# Altium integrated library Intersil DSP 16-Bit.IntLib: 15 symbols
Pins are listed as number, name and electrical type; pins without a type are passive.

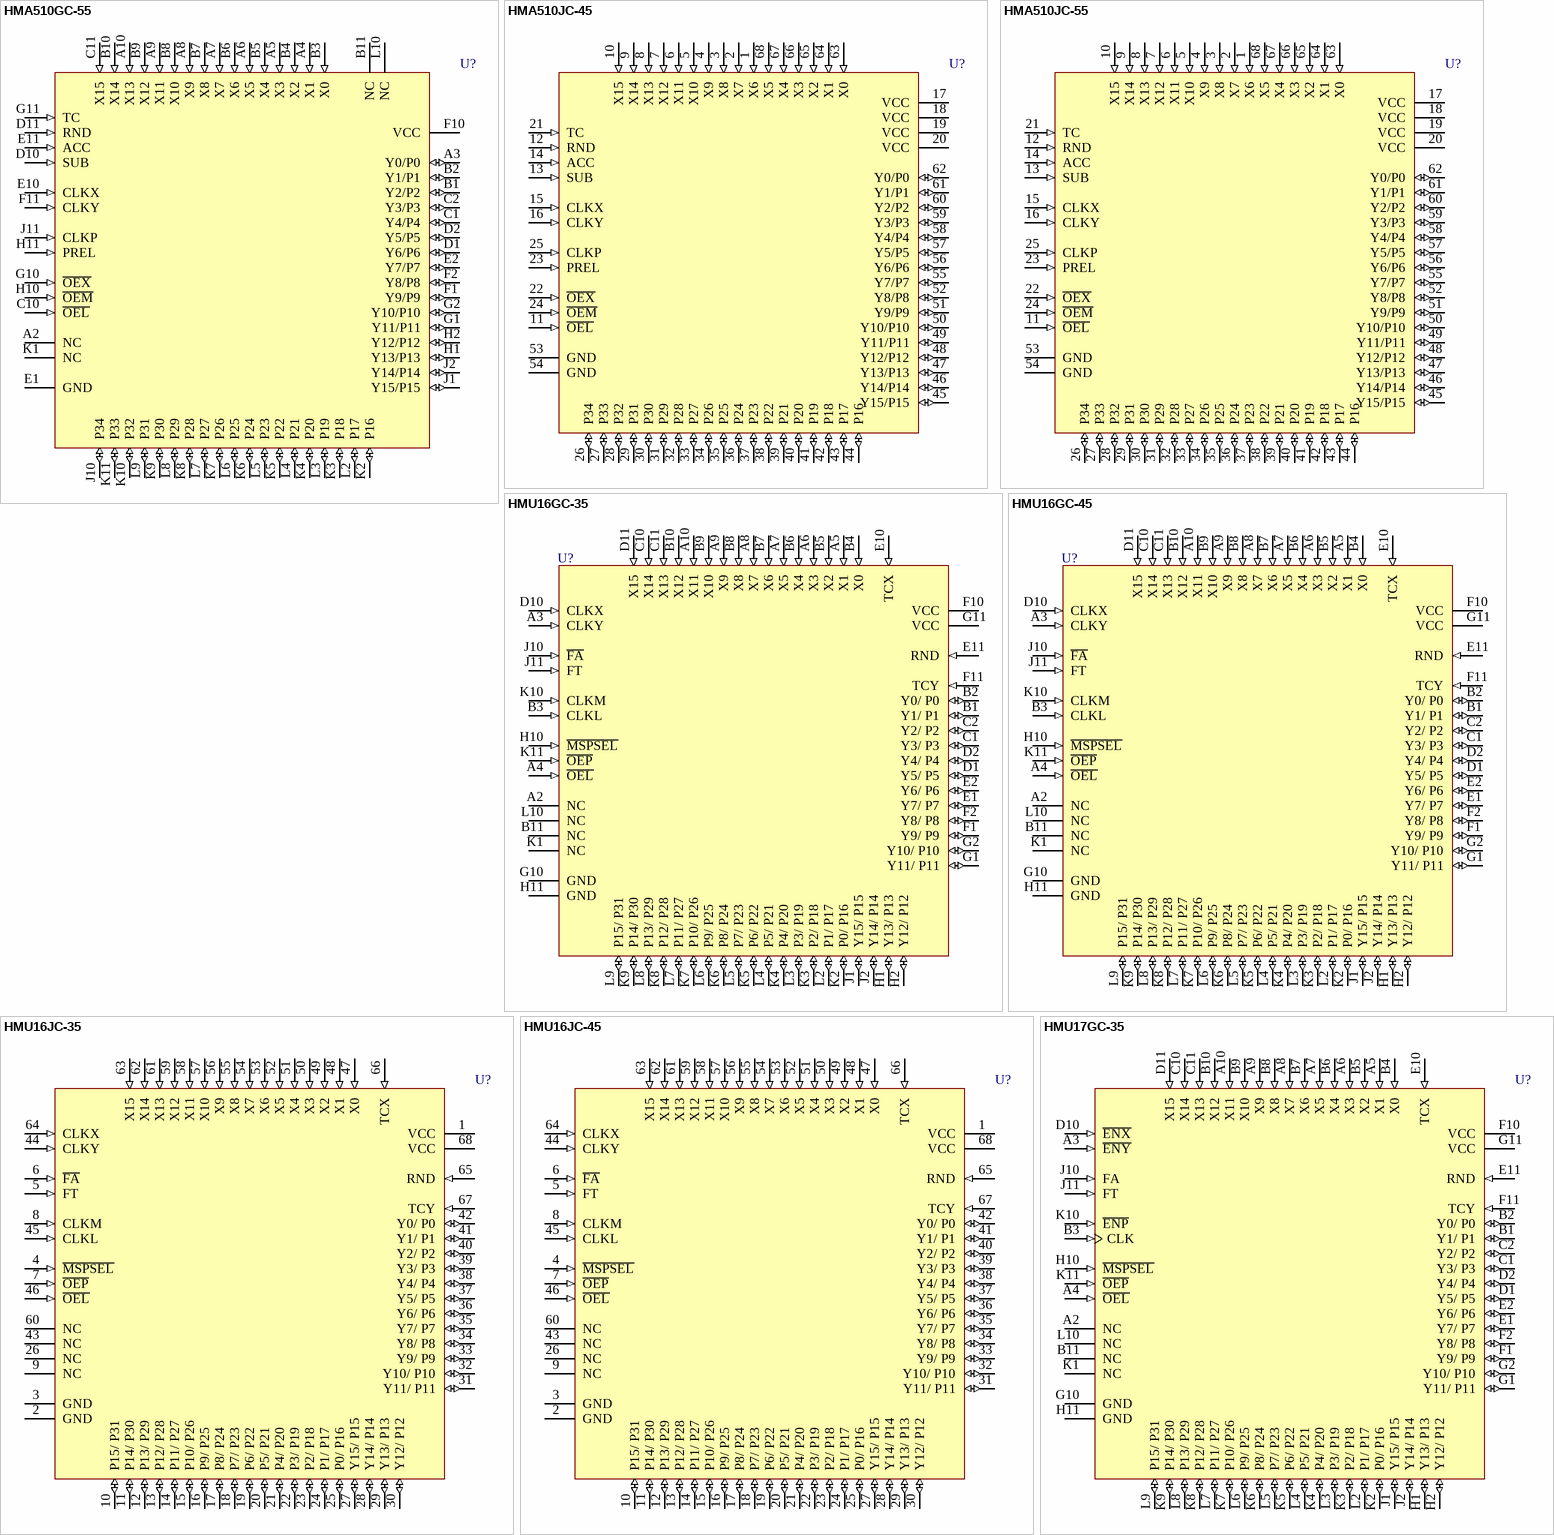
[diagram p0: symbols HMA510GC-55 to HMU17GC-35]

## HMA510GC-55
designator U?
16 x 16-Bit Parallel Multiplier Accumulator; Published: 17-Jul-2002; LatestRevisionDate: 06-Jun-2005; LatestRevisionNote: Stylized 3D Model Added.; DatasheetVersion: Apr-1997; PackageVersion: Jun-1995; PackageReference: G68.B; Publisher: Altium Limited; PackageDescription: 68-Pin Pin Grid Array 2.54 mm Pitch; ComponentLink1Description: Manufacturer Link; ComponentLink1URL: http://www.intersil.com/cda/home/
footprint G68.B (PGA, 68-Leads, Body 29.5x29.5mm, Pitch 2.54mm)
3D model HMA510-G68_B (68-Pin Pin Grid Array 2.54 mm Pitch)
pins: A2 NC, A3 Y0/P0 (io), A4 X1 (in), A5 X3 (in), A6 X5 (in), A7 X7 (in), A8 X9 (in), A9 X11 (in), A10 X13 (in), B1 Y2/P2 (io), B2 Y1/P1 (io), B3 X0 (in), B4 X2 (in), B5 X4 (in), B6 X6 (in), B7 X8 (in), B8 X10 (in), B9 X12 (in), B10 X14 (in), B11 NC, C1 Y4/P4 (io), C2 Y3/P3 (io), C10 ~{OEL} (in), C11 X15 (in), D1 Y6/P6 (io), D2 Y5/P5 (io), D10 SUB (in), D11 RND (in), E1 GND (power), E2 Y7/P7 (io), E10 CLKX (in), E11 ACC (in), F1 Y9/P9 (io), F2 Y8/P8 (io), F10 VCC (power), F11 CLKY (in), G1 Y11/P11 (io), G2 Y10/P10 (io), G10 ~{OEX} (in), G11 TC (in), H1 Y13/P13 (io), H2 Y12/P12 (io), H10 ~{OEM} (in), H11 PREL (in), J1 Y15/P15 (io), J2 Y14/P14 (io), J10 P34 (io), J11 CLKP (in), K1 NC, K2 P16 (io), K3 P18 (io), K4 P20 (io), K5 P22 (io), K6 P24 (io), K7 P26 (io), K8 P28 (io), K9 P30 (io), K10 P32 (io), K11 P33 (io), L2 P17 (io), L3 P19 (io), L4 P21 (io), L5 P23 (io), L6 P25 (io), L7 P27 (io), L8 P29 (io), L9 P31 (io), L10 NC

## HMA510JC-45
designator U?
16 x 16-Bit Parallel Multiplier Accumulator; Published: 17-Jul-2002; LatestRevisionDate: 13-Apr-2006; LatestRevisionNote: IPC-7351 Footprint Added.; DatasheetVersion: Apr-1997; PackageVersion: Nov-1997; PackageReference: N68.95; Publisher: Altium Limited; PackageDescription: 68-Pin Leaded Chip Carrier 1.27 mm Pitch; Code_IPC: PLCC-68; ComponentLink1Description: Manufacturer Link; ComponentLink1URL: http://www.intersil.com/cda/home/
footprint N68.95_N (Leaded Chip Carrier, 68-Leads, Body 24x24mm, Pitch 1.27mm, IPC Medium Density)
footprint N68.95_L (Leaded Chip Carrier, 68-Leads, Body 24x24mm, Pitch 1.27mm, IPC High Density)
footprint N68.95_M (Leaded Chip Carrier, 68-Leads, Body 24x24mm, Pitch 1.27mm, IPC Low Density)
3D model HMA510-N68_95 (68-Pin Leaded Chip Carrier 1.27 mm Pitch)
pins: 1 X6 (in), 2 X7 (in), 3 X8 (in), 4 X9 (in), 5 X10 (in), 6 X11 (in), 7 X12 (in), 8 X13 (in), 9 X14 (in), 10 X15 (in), 11 ~{OEL} (in), 12 RND (in), 13 SUB (in), 14 ACC (in), 15 CLKX (in), 16 CLKY (in), 17 VCC (power), 18 VCC (power), 19 VCC (power), 20 VCC (power), 21 TC (in), 22 ~{OEX} (in), 23 PREL (in), 24 ~{OEM} (in), 25 CLKP (in), 26 P34 (io), 27 P33 (io), 28 P32 (io), 29 P31 (io), 30 P30 (io), 31 P29 (io), 32 P28 (io), 33 P27 (io), 34 P26 (io), 35 P25 (io), 36 P24 (io), 37 P23 (io), 38 P22 (io), 39 P21 (io), 40 P20 (io), 41 P19 (io), 42 P18 (io), 43 P17 (io), 44 P16 (io), 45 Y15/P15 (io), 46 Y14/P14 (io), 47 Y13/P13 (io), 48 Y12/P12 (io), 49 Y11/P11 (io), 50 Y10/P10 (io), 51 Y9/P9 (io), 52 Y8/P8 (io), 53 GND (power), 54 GND (power), 55 Y7/P7 (io), 56 Y6/P6 (io), 57 Y5/P5 (io), 58 Y4/P4 (io), 59 Y3/P3 (io), 60 Y2/P2 (io), 61 Y1/P1 (io), 62 Y0/P0 (io), 63 X0 (in), 64 X1 (in), 65 X2 (in), 66 X3 (in), 67 X4 (in), 68 X5 (in)

## HMA510JC-55
designator U?
16 x 16-Bit Parallel Multiplier Accumulator; Published: 17-Jul-2002; LatestRevisionDate: 13-Apr-2006; LatestRevisionNote: IPC-7351 Footprint Added.; DatasheetVersion: Apr-1997; PackageVersion: Nov-1997; PackageReference: N68.95; Publisher: Altium Limited; PackageDescription: 68-Pin Leaded Chip Carrier 1.27 mm Pitch; Code_IPC: PLCC-68; ComponentLink1Description: Manufacturer Link; ComponentLink1URL: http://www.intersil.com/cda/home/
footprint N68.95_N (Leaded Chip Carrier, 68-Leads, Body 24x24mm, Pitch 1.27mm, IPC Medium Density)
footprint N68.95_L (Leaded Chip Carrier, 68-Leads, Body 24x24mm, Pitch 1.27mm, IPC High Density)
footprint N68.95_M (Leaded Chip Carrier, 68-Leads, Body 24x24mm, Pitch 1.27mm, IPC Low Density)
3D model HMA510-N68_95 (68-Pin Leaded Chip Carrier 1.27 mm Pitch)
pins: 1 X6 (in), 2 X7 (in), 3 X8 (in), 4 X9 (in), 5 X10 (in), 6 X11 (in), 7 X12 (in), 8 X13 (in), 9 X14 (in), 10 X15 (in), 11 ~{OEL} (in), 12 RND (in), 13 SUB (in), 14 ACC (in), 15 CLKX (in), 16 CLKY (in), 17 VCC (power), 18 VCC (power), 19 VCC (power), 20 VCC (power), 21 TC (in), 22 ~{OEX} (in), 23 PREL (in), 24 ~{OEM} (in), 25 CLKP (in), 26 P34 (io), 27 P33 (io), 28 P32 (io), 29 P31 (io), 30 P30 (io), 31 P29 (io), 32 P28 (io), 33 P27 (io), 34 P26 (io), 35 P25 (io), 36 P24 (io), 37 P23 (io), 38 P22 (io), 39 P21 (io), 40 P20 (io), 41 P19 (io), 42 P18 (io), 43 P17 (io), 44 P16 (io), 45 Y15/P15 (io), 46 Y14/P14 (io), 47 Y13/P13 (io), 48 Y12/P12 (io), 49 Y11/P11 (io), 50 Y10/P10 (io), 51 Y9/P9 (io), 52 Y8/P8 (io), 53 GND (power), 54 GND (power), 55 Y7/P7 (io), 56 Y6/P6 (io), 57 Y5/P5 (io), 58 Y4/P4 (io), 59 Y3/P3 (io), 60 Y2/P2 (io), 61 Y1/P1 (io), 62 Y0/P0 (io), 63 X0 (in), 64 X1 (in), 65 X2 (in), 66 X3 (in), 67 X4 (in), 68 X5 (in)

## HMU16GC-35
designator U?
16 x 16-Bit CMOS Parallel Multipliers; Published: 17-Jul-2002; LatestRevisionDate: 06-Jun-2005; LatestRevisionNote: Stylized 3D Model Added.; DatasheetVersion: Nov-1999; PackageVersion: Jun-1995; PackageReference: G68.B; Publisher: Altium Limited; PackageDescription: 68-Pin Pin Grid Array 2.54 mm Pitch; ComponentLink1Description: Manufacturer Link; ComponentLink1URL: http://www.intersil.com/cda/home/
footprint G68.B (PGA, 68-Leads, Body 29.5x29.5mm, Pitch 2.54mm)
3D model HMU16-G68_B (68-Pin Pin Grid Array 2.54 mm Pitch)
pins: A2 NC, A3 CLKY (in), A4 ~{OEL} (in), A5 X1 (in), A6 X3 (in), A7 X5 (in), A8 X7 (in), A9 X9 (in), A10 X11 (in), B1 Y1/ P1 (io), B2 Y0/ P0 (io), B3 CLKL (in), B4 X0 (in), B5 X2 (in), B6 X4 (in), B7 X6 (in), B8 X8 (in), B9 X10 (in), B10 X12 (in), B11 NC, C1 Y3/ P3 (io), C2 Y2/ P2 (io), C10 X14 (in), C11 X13 (in), D1 Y5/ P5 (io), D2 Y4/ P4 (io), D10 CLKX (in), D11 X15 (in), E1 Y7/ P7 (io), E2 Y6/ P6 (io), E10 TCX (in), E11 RND (in), F1 Y9/ P9 (io), F2 Y8/ P8 (io), F10 VCC (power), F11 TCY (in), G1 Y11/ P11 (io), G2 Y10/ P10 (io), G10 GND (power), G11 VCC (power), H1 Y13/ P13 (io), H2 Y12/ P12 (io), H10 ~{MSPSEL} (in), H11 GND (power), J1 Y15/ P15 (io), J2 Y14/ P14 (io), J10 ~{FA} (in), J11 FT (in), K1 NC, K2 P0/ P16 (io), K3 P2/ P18 (io), K4 P4/ P20 (io), K5 P6/ P22 (io), K6 P8/ P24 (io), K7 P10/ P26 (io), K8 P12/ P28 (io), K9 P14/ P30 (io), K10 CLKM (in), K11 ~{OEP} (in), L2 P1/ P17 (io), L3 P3/ P19 (io), L4 P5/ P21 (io), L5 P7/ P23 (io), L6 P9/ P25 (io), L7 P11/ P27 (io), L8 P13/ P29 (io), L9 P15/ P31 (io), L10 NC

## HMU16GC-45
designator U?
16 x 16-Bit CMOS Parallel Multipliers; Published: 17-Jul-2002; LatestRevisionDate: 06-Jun-2005; LatestRevisionNote: Stylized 3D Model Added.; DatasheetVersion: Nov-1999; PackageVersion: Jun-1995; PackageReference: G68.B; Publisher: Altium Limited; PackageDescription: 68-Pin Pin Grid Array 2.54 mm Pitch; ComponentLink1Description: Manufacturer Link; ComponentLink1URL: http://www.intersil.com/cda/home/
footprint G68.B (PGA, 68-Leads, Body 29.5x29.5mm, Pitch 2.54mm)
3D model HMU16-G68_B (68-Pin Pin Grid Array 2.54 mm Pitch)
pins: A2 NC, A3 CLKY (in), A4 ~{OEL} (in), A5 X1 (in), A6 X3 (in), A7 X5 (in), A8 X7 (in), A9 X9 (in), A10 X11 (in), B1 Y1/ P1 (io), B2 Y0/ P0 (io), B3 CLKL (in), B4 X0 (in), B5 X2 (in), B6 X4 (in), B7 X6 (in), B8 X8 (in), B9 X10 (in), B10 X12 (in), B11 NC, C1 Y3/ P3 (io), C2 Y2/ P2 (io), C10 X14 (in), C11 X13 (in), D1 Y5/ P5 (io), D2 Y4/ P4 (io), D10 CLKX (in), D11 X15 (in), E1 Y7/ P7 (io), E2 Y6/ P6 (io), E10 TCX (in), E11 RND (in), F1 Y9/ P9 (io), F2 Y8/ P8 (io), F10 VCC (power), F11 TCY (in), G1 Y11/ P11 (io), G2 Y10/ P10 (io), G10 GND (power), G11 VCC (power), H1 Y13/ P13 (io), H2 Y12/ P12 (io), H10 ~{MSPSEL} (in), H11 GND (power), J1 Y15/ P15 (io), J2 Y14/ P14 (io), J10 ~{FA} (in), J11 FT (in), K1 NC, K2 P0/ P16 (io), K3 P2/ P18 (io), K4 P4/ P20 (io), K5 P6/ P22 (io), K6 P8/ P24 (io), K7 P10/ P26 (io), K8 P12/ P28 (io), K9 P14/ P30 (io), K10 CLKM (in), K11 ~{OEP} (in), L2 P1/ P17 (io), L3 P3/ P19 (io), L4 P5/ P21 (io), L5 P7/ P23 (io), L6 P9/ P25 (io), L7 P11/ P27 (io), L8 P13/ P29 (io), L9 P15/ P31 (io), L10 NC

## HMU16JC-35
designator U?
16 x 16-Bit CMOS Parallel Multipliers; Published: 17-Jul-2002; LatestRevisionDate: 13-Apr-2006; LatestRevisionNote: IPC-7351 Footprint Added.; DatasheetVersion: Nov-1999; PackageVersion: Nov-1997; PackageReference: N68.95; Publisher: Altium Limited; PackageDescription: 68-Pin Leaded Chip Carrier 1.27 mm Pitch; Code_IPC: PLCC-68; ComponentLink1Description: Manufacturer Link; ComponentLink1URL: http://www.intersil.com/cda/home/
footprint N68.95_N (Leaded Chip Carrier, 68-Leads, Body 24x24mm, Pitch 1.27mm, IPC Medium Density)
footprint N68.95_L (Leaded Chip Carrier, 68-Leads, Body 24x24mm, Pitch 1.27mm, IPC High Density)
footprint N68.95_M (Leaded Chip Carrier, 68-Leads, Body 24x24mm, Pitch 1.27mm, IPC Low Density)
3D model HMU16-N68_95 (68-Pin Leaded Chip Carrier 1.27 mm Pitch)
pins: 1 VCC (power), 2 GND (power), 3 GND (power), 4 ~{MSPSEL} (in), 5 FT (in), 6 ~{FA} (in), 7 ~{OEP} (in), 8 CLKM (in), 9 NC, 10 P15/ P31 (io), 11 P14/ P30 (io), 12 P13/ P29 (io), 13 P12/ P28 (io), 14 P11/ P27 (io), 15 P10/ P26 (io), 16 P9/ P25 (io), 17 P8/ P24 (io), 18 P7/ P23 (io), 19 P6/ P22 (io), 20 P5/ P21 (io), 21 P4/ P20 (io), 22 P3/ P19 (io), 23 P2/ P18 (io), 24 P1/ P17 (io), 25 P0/ P16 (io), 26 NC, 27 Y15/ P15 (io), 28 Y14/ P14 (io), 29 Y13/ P13 (io), 30 Y12/ P12 (io), 31 Y11/ P11 (io), 32 Y10/ P10 (io), 33 Y9/ P9 (io), 34 Y8/ P8 (io), 35 Y7/ P7 (io), 36 Y6/ P6 (io), 37 Y5/ P5 (io), 38 Y4/ P4 (io), 39 Y3/ P3 (io), 40 Y2/ P2 (io), 41 Y1/ P1 (io), 42 Y0/ P0 (io), 43 NC, 44 CLKY (in), 45 CLKL (in), 46 ~{OEL} (in), 47 X0 (in), 48 X1 (in), 49 X2 (in), 50 X3 (in), 51 X4 (in), 52 X5 (in), 53 X6 (in), 54 X7 (in), 55 X8 (in), 56 X9 (in), 57 X10 (in), 58 X11 (in), 59 X12 (in), 60 NC, 61 X13 (in), 62 X14 (in), 63 X15 (in), 64 CLKX (in), 65 RND (in), 66 TCX (in), 67 TCY (in), 68 VCC (power)

## HMU16JC-45
designator U?
16 x 16-Bit CMOS Parallel Multipliers; Published: 17-Jul-2002; LatestRevisionDate: 13-Apr-2006; LatestRevisionNote: IPC-7351 Footprint Added.; DatasheetVersion: Nov-1999; PackageVersion: Nov-1997; PackageReference: N68.95; Publisher: Altium Limited; PackageDescription: 68-Pin Leaded Chip Carrier 1.27 mm Pitch; Code_IPC: PLCC-68; ComponentLink1Description: Manufacturer Link; ComponentLink1URL: http://www.intersil.com/cda/home/
footprint N68.95_N (Leaded Chip Carrier, 68-Leads, Body 24x24mm, Pitch 1.27mm, IPC Medium Density)
footprint N68.95_L (Leaded Chip Carrier, 68-Leads, Body 24x24mm, Pitch 1.27mm, IPC High Density)
footprint N68.95_M (Leaded Chip Carrier, 68-Leads, Body 24x24mm, Pitch 1.27mm, IPC Low Density)
3D model HMU16-N68_95 (68-Pin Leaded Chip Carrier 1.27 mm Pitch)
pins: 1 VCC (power), 2 GND (power), 3 GND (power), 4 ~{MSPSEL} (in), 5 FT (in), 6 ~{FA} (in), 7 ~{OEP} (in), 8 CLKM (in), 9 NC, 10 P15/ P31 (io), 11 P14/ P30 (io), 12 P13/ P29 (io), 13 P12/ P28 (io), 14 P11/ P27 (io), 15 P10/ P26 (io), 16 P9/ P25 (io), 17 P8/ P24 (io), 18 P7/ P23 (io), 19 P6/ P22 (io), 20 P5/ P21 (io), 21 P4/ P20 (io), 22 P3/ P19 (io), 23 P2/ P18 (io), 24 P1/ P17 (io), 25 P0/ P16 (io), 26 NC, 27 Y15/ P15 (io), 28 Y14/ P14 (io), 29 Y13/ P13 (io), 30 Y12/ P12 (io), 31 Y11/ P11 (io), 32 Y10/ P10 (io), 33 Y9/ P9 (io), 34 Y8/ P8 (io), 35 Y7/ P7 (io), 36 Y6/ P6 (io), 37 Y5/ P5 (io), 38 Y4/ P4 (io), 39 Y3/ P3 (io), 40 Y2/ P2 (io), 41 Y1/ P1 (io), 42 Y0/ P0 (io), 43 NC, 44 CLKY (in), 45 CLKL (in), 46 ~{OEL} (in), 47 X0 (in), 48 X1 (in), 49 X2 (in), 50 X3 (in), 51 X4 (in), 52 X5 (in), 53 X6 (in), 54 X7 (in), 55 X8 (in), 56 X9 (in), 57 X10 (in), 58 X11 (in), 59 X12 (in), 60 NC, 61 X13 (in), 62 X14 (in), 63 X15 (in), 64 CLKX (in), 65 RND (in), 66 TCX (in), 67 TCY (in), 68 VCC (power)

## HMU17GC-35
designator U?
16 x 16-Bit CMOS Parallel Multipliers; Published: 17-Jul-2002; LatestRevisionDate: 06-Jun-2005; LatestRevisionNote: Stylized 3D Model Added.; DatasheetVersion: Nov-1999; PackageVersion: Jun-1995; PackageReference: G68.B; Publisher: Altium Limited; PackageDescription: 68-Pin Pin Grid Array 2.54 mm Pitch; ComponentLink1Description: Manufacturer Link; ComponentLink1URL: http://www.intersil.com/cda/home/
footprint G68.B (PGA, 68-Leads, Body 29.5x29.5mm, Pitch 2.54mm)
3D model HMU17-G68_B (68-Pin Pin Grid Array 2.54 mm Pitch)
pins: A2 NC, A3 ~{ENY} (in), A4 ~{OEL} (in), A5 X1 (in), A6 X3 (in), A7 X5 (in), A8 X7 (in), A9 X9 (in), A10 X11 (in), B1 Y1/ P1 (io), B2 Y0/ P0 (io), B3 CLK (in), B4 X0 (in), B5 X2 (in), B6 X4 (in), B7 X6 (in), B8 X8 (in), B9 X10 (in), B10 X12 (in), B11 NC, C1 Y3/ P3 (io), C2 Y2/ P2 (io), C10 X14 (in), C11 X13 (in), D1 Y5/ P5 (io), D2 Y4/ P4 (io), D10 ~{ENX} (in), D11 X15 (in), E1 Y7/ P7 (io), E2 Y6/ P6 (io), E10 TCX (in), E11 RND (in), F1 Y9/ P9 (io), F2 Y8/ P8 (io), F10 VCC (power), F11 TCY (in), G1 Y11/ P11 (io), G2 Y10/ P10 (io), G10 GND (power), G11 VCC (power), H1 Y13/ P13 (io), H2 Y12/ P12 (io), H10 ~{MSPSEL} (in), H11 GND (power), J1 Y15/ P15 (io), J2 Y14/ P14 (io), J10 FA (in), J11 FT (in), K1 NC, K2 P0/ P16 (io), K3 P2/ P18 (io), K4 P4/ P20 (io), K5 P6/ P22 (io), K6 P8/ P24 (io), K7 P10/ P26 (io), K8 P12/ P28 (io), K9 P14/ P30 (io), K10 ~{ENP} (in), K11 ~{OEP} (in), L2 P1/ P17 (io), L3 P3/ P19 (io), L4 P5/ P21 (io), L5 P7/ P23 (io), L6 P9/ P25 (io), L7 P11/ P27 (io), L8 P13/ P29 (io), L9 P15/ P31 (io), L10 NC

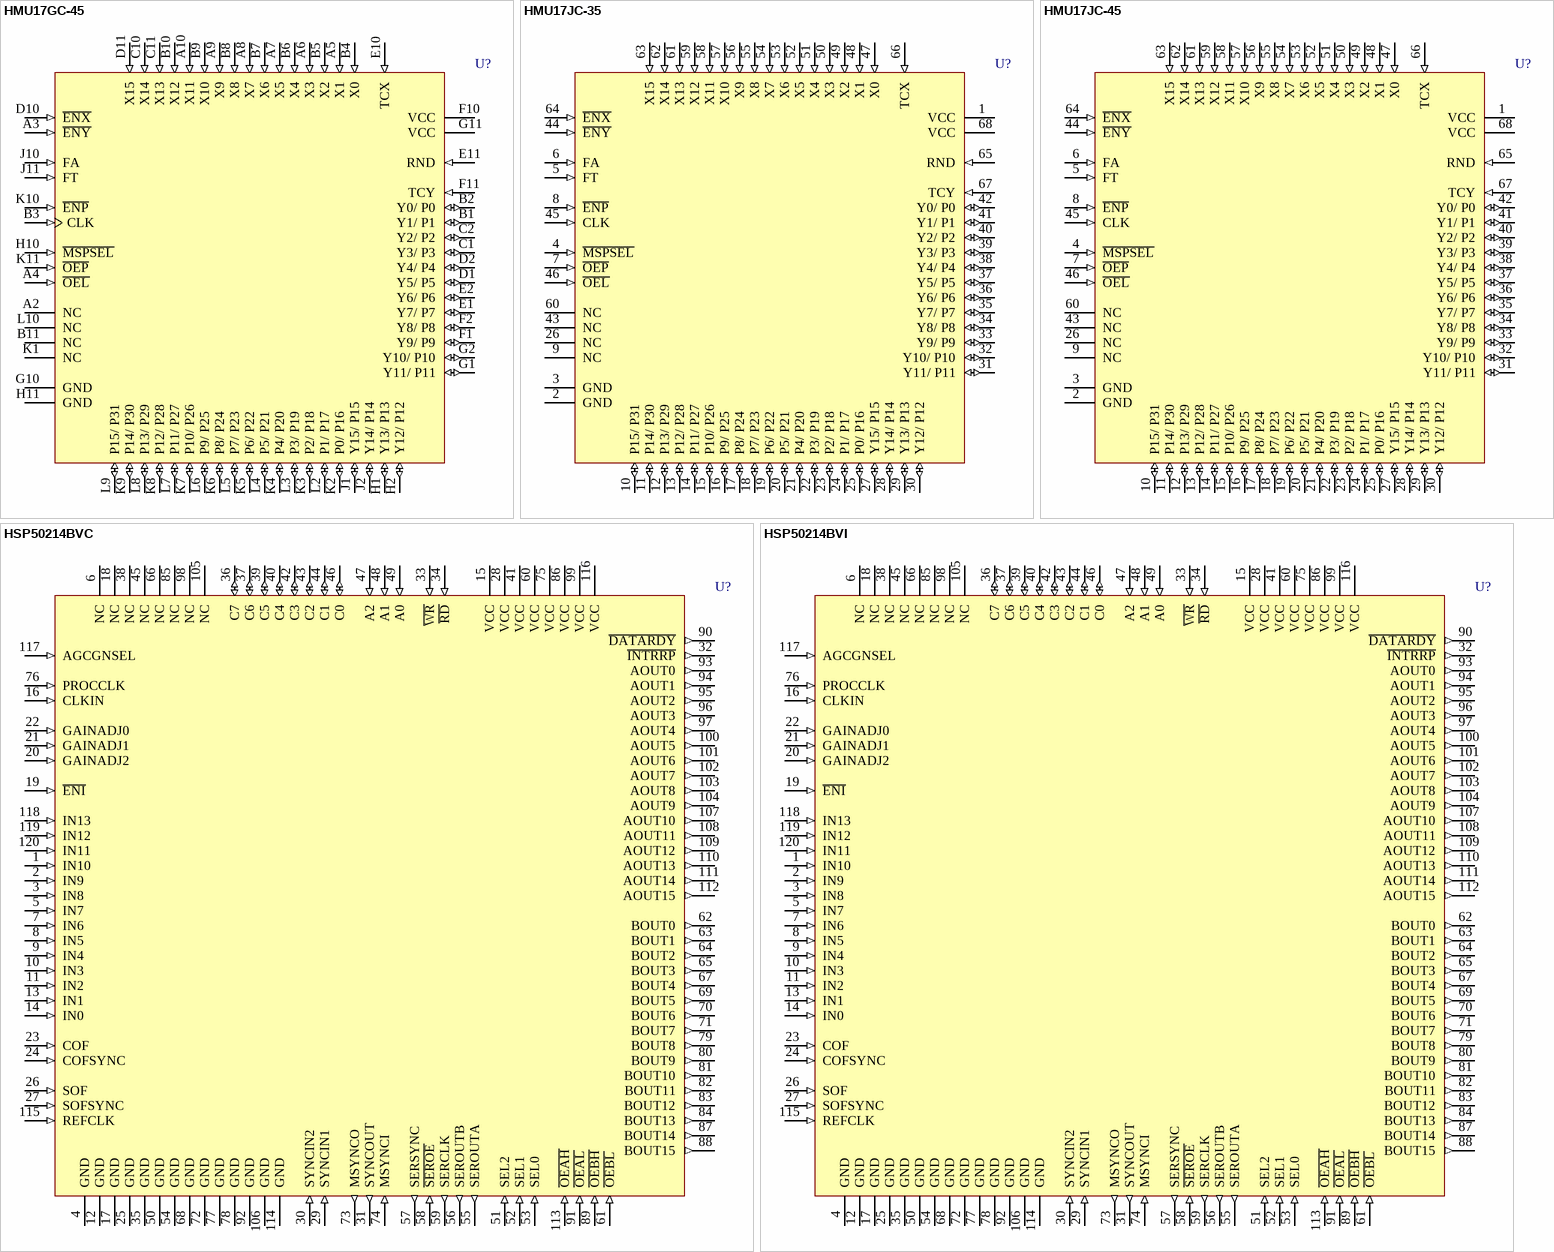
[diagram p1: symbols HMU17GC-45 to HSP50214BVI]

## HMU17GC-45
designator U?
16 x 16-Bit CMOS Parallel Multipliers; Published: 17-Jul-2002; LatestRevisionDate: 06-Jun-2005; LatestRevisionNote: Stylized 3D Model Added.; DatasheetVersion: Nov-1999; PackageVersion: Jun-1995; PackageReference: G68.B; Publisher: Altium Limited; PackageDescription: 68-Pin Pin Grid Array 2.54 mm Pitch; ComponentLink1Description: Manufacturer Link; ComponentLink1URL: http://www.intersil.com/cda/home/
footprint G68.B (PGA, 68-Leads, Body 29.5x29.5mm, Pitch 2.54mm)
3D model HMU17-G68_B (68-Pin Pin Grid Array 2.54 mm Pitch)
pins: A2 NC, A3 ~{ENY} (in), A4 ~{OEL} (in), A5 X1 (in), A6 X3 (in), A7 X5 (in), A8 X7 (in), A9 X9 (in), A10 X11 (in), B1 Y1/ P1 (io), B2 Y0/ P0 (io), B3 CLK (in), B4 X0 (in), B5 X2 (in), B6 X4 (in), B7 X6 (in), B8 X8 (in), B9 X10 (in), B10 X12 (in), B11 NC, C1 Y3/ P3 (io), C2 Y2/ P2 (io), C10 X14 (in), C11 X13 (in), D1 Y5/ P5 (io), D2 Y4/ P4 (io), D10 ~{ENX} (in), D11 X15 (in), E1 Y7/ P7 (io), E2 Y6/ P6 (io), E10 TCX (in), E11 RND (in), F1 Y9/ P9 (io), F2 Y8/ P8 (io), F10 VCC (power), F11 TCY (in), G1 Y11/ P11 (io), G2 Y10/ P10 (io), G10 GND (power), G11 VCC (power), H1 Y13/ P13 (io), H2 Y12/ P12 (io), H10 ~{MSPSEL} (in), H11 GND (power), J1 Y15/ P15 (io), J2 Y14/ P14 (io), J10 FA (in), J11 FT (in), K1 NC, K2 P0/ P16 (io), K3 P2/ P18 (io), K4 P4/ P20 (io), K5 P6/ P22 (io), K6 P8/ P24 (io), K7 P10/ P26 (io), K8 P12/ P28 (io), K9 P14/ P30 (io), K10 ~{ENP} (in), K11 ~{OEP} (in), L2 P1/ P17 (io), L3 P3/ P19 (io), L4 P5/ P21 (io), L5 P7/ P23 (io), L6 P9/ P25 (io), L7 P11/ P27 (io), L8 P13/ P29 (io), L9 P15/ P31 (io), L10 NC

## HMU17JC-35
designator U?
16 x 16-Bit CMOS Parallel Multipliers; Published: 17-Jul-2002; LatestRevisionDate: 13-Apr-2006; LatestRevisionNote: IPC-7351 Footprint Added.; DatasheetVersion: Nov-1999; PackageVersion: Nov-1997; PackageReference: N68.95; Publisher: Altium Limited; PackageDescription: 68-Pin Leaded Chip Carrier 1.27 mm Pitch; Code_IPC: PLCC-68; ComponentLink1Description: Manufacturer Link; ComponentLink1URL: http://www.intersil.com/cda/home/
footprint N68.95_N (Leaded Chip Carrier, 68-Leads, Body 24x24mm, Pitch 1.27mm, IPC Medium Density)
footprint N68.95_L (Leaded Chip Carrier, 68-Leads, Body 24x24mm, Pitch 1.27mm, IPC High Density)
footprint N68.95_M (Leaded Chip Carrier, 68-Leads, Body 24x24mm, Pitch 1.27mm, IPC Low Density)
3D model HMU17-N68_95 (68-Pin Leaded Chip Carrier 1.27 mm Pitch)
pins: 1 VCC (power), 2 GND (power), 3 GND (power), 4 ~{MSPSEL} (in), 5 FT (in), 6 FA (in), 7 ~{OEP} (in), 8 ~{ENP} (in), 9 NC, 10 P15/ P31 (io), 11 P14/ P30 (io), 12 P13/ P29 (io), 13 P12/ P28 (io), 14 P11/ P27 (io), 15 P10/ P26 (io), 16 P9/ P25 (io), 17 P8/ P24 (io), 18 P7/ P23 (io), 19 P6/ P22 (io), 20 P5/ P21 (io), 21 P4/ P20 (io), 22 P3/ P19 (io), 23 P2/ P18 (io), 24 P1/ P17 (io), 25 P0/ P16 (io), 26 NC, 27 Y15/ P15 (io), 28 Y14/ P14 (io), 29 Y13/ P13 (io), 30 Y12/ P12 (io), 31 Y11/ P11 (io), 32 Y10/ P10 (io), 33 Y9/ P9 (io), 34 Y8/ P8 (io), 35 Y7/ P7 (io), 36 Y6/ P6 (io), 37 Y5/ P5 (io), 38 Y4/ P4 (io), 39 Y3/ P3 (io), 40 Y2/ P2 (io), 41 Y1/ P1 (io), 42 Y0/ P0 (io), 43 NC, 44 ~{ENY} (in), 45 CLK (in), 46 ~{OEL} (in), 47 X0 (in), 48 X1 (in), 49 X2 (in), 50 X3 (in), 51 X4 (in), 52 X5 (in), 53 X6 (in), 54 X7 (in), 55 X8 (in), 56 X9 (in), 57 X10 (in), 58 X11 (in), 59 X12 (in), 60 NC, 61 X13 (in), 62 X14 (in), 63 X15 (in), 64 ~{ENX} (in), 65 RND (in), 66 TCX (in), 67 TCY (in), 68 VCC (power)

## HMU17JC-45
designator U?
16 x 16-Bit CMOS Parallel Multipliers; Published: 17-Jul-2002; LatestRevisionDate: 13-Apr-2006; LatestRevisionNote: IPC-7351 Footprint Added.; DatasheetVersion: Nov-1999; PackageVersion: Nov-1997; PackageReference: N68.95; Publisher: Altium Limited; PackageDescription: 68-Pin Leaded Chip Carrier 1.27 mm Pitch; Code_IPC: PLCC-68; ComponentLink1Description: Manufacturer Link; ComponentLink1URL: http://www.intersil.com/cda/home/
footprint N68.95_N (Leaded Chip Carrier, 68-Leads, Body 24x24mm, Pitch 1.27mm, IPC Medium Density)
footprint N68.95_L (Leaded Chip Carrier, 68-Leads, Body 24x24mm, Pitch 1.27mm, IPC High Density)
footprint N68.95_M (Leaded Chip Carrier, 68-Leads, Body 24x24mm, Pitch 1.27mm, IPC Low Density)
3D model HMU17-N68_95 (68-Pin Leaded Chip Carrier 1.27 mm Pitch)
pins: 1 VCC (power), 2 GND (power), 3 GND (power), 4 ~{MSPSEL} (in), 5 FT (in), 6 FA (in), 7 ~{OEP} (in), 8 ~{ENP} (in), 9 NC, 10 P15/ P31 (io), 11 P14/ P30 (io), 12 P13/ P29 (io), 13 P12/ P28 (io), 14 P11/ P27 (io), 15 P10/ P26 (io), 16 P9/ P25 (io), 17 P8/ P24 (io), 18 P7/ P23 (io), 19 P6/ P22 (io), 20 P5/ P21 (io), 21 P4/ P20 (io), 22 P3/ P19 (io), 23 P2/ P18 (io), 24 P1/ P17 (io), 25 P0/ P16 (io), 26 NC, 27 Y15/ P15 (io), 28 Y14/ P14 (io), 29 Y13/ P13 (io), 30 Y12/ P12 (io), 31 Y11/ P11 (io), 32 Y10/ P10 (io), 33 Y9/ P9 (io), 34 Y8/ P8 (io), 35 Y7/ P7 (io), 36 Y6/ P6 (io), 37 Y5/ P5 (io), 38 Y4/ P4 (io), 39 Y3/ P3 (io), 40 Y2/ P2 (io), 41 Y1/ P1 (io), 42 Y0/ P0 (io), 43 NC, 44 ~{ENY} (in), 45 CLK (in), 46 ~{OEL} (in), 47 X0 (in), 48 X1 (in), 49 X2 (in), 50 X3 (in), 51 X4 (in), 52 X5 (in), 53 X6 (in), 54 X7 (in), 55 X8 (in), 56 X9 (in), 57 X10 (in), 58 X11 (in), 59 X12 (in), 60 NC, 61 X13 (in), 62 X14 (in), 63 X15 (in), 64 ~{ENX} (in), 65 RND (in), 66 TCX (in), 67 TCY (in), 68 VCC (power)

## HSP50214BVC
designator U?
Programmmable Downconverter; Published: 17-Jul-2002; LatestRevisionDate: 13-Apr-2006; LatestRevisionNote: IPC-7351 Footprint Added.; DatasheetVersion: May-2000; PackageVersion: Jan-1994; PackageReference: Q120.28x28; Publisher: Altium Limited; PackageDescription: 120-Pin Quad Flat Pack 0.8 mm Pitch; Code_IPC: QFP80P3120X3120-120; ComponentLink1Description: Manufacturer Link; ComponentLink1URL: http://www.intersil.com/cda/home/; ComponentLink2Description: Datasheet; ComponentLink2URL: http://www.intersil.com/data/fn/fn4450.pdf
footprint Q120.28x28_N (QFP, 120-Leads, Body 28x28mm, Pitch 0.8mm, IPC Medium Density)
footprint Q120.28x28_L (QFP, 120-Leads, Body 28x28mm, Pitch 0.8mm, IPC High Density)
footprint Q120.28x28_M (QFP, 120-Leads, Body 28x28mm, Pitch 0.8mm, IPC Low Density)
3D model HSP50214B-Q120_28x28 (120-Pin Quad Flat Pack 0.8 mm Pitch)
pins: 1 IN10 (in), 2 IN9 (in), 3 IN8 (in), 4 GND (power), 5 IN7 (in), 6 NC, 7 IN6 (in), 8 IN5 (in), 9 IN4 (in), 10 IN3 (in), 11 IN2 (in), 12 GND (power), 13 IN1 (in), 14 IN0 (in), 15 VCC (power), 16 CLKIN (in), 17 GND (power), 18 NC, 19 ~{ENI} (in), 20 GAINADJ2 (in), 21 GAINADJ1 (in), 22 GAINADJ0 (in), 23 COF (in), 24 COFSYNC (in), 25 GND (power), 26 SOF (in), 27 SOFSYNC (in), 28 VCC (power), 29 SYNCIN1 (in), 30 SYNCIN2 (in), 31 SYNCOUT (out), 32 ~{INTRRP} (out), 33 ~{WR} (in), 34 ~{RD} (in), 35 GND (power), 36 C7 (io), 37 C6 (io), 38 NC, 39 C5 (io), 40 C4 (io), 41 VCC (power), 42 C3 (io), 43 C2 (io), 44 C1 (io), 45 NC, 46 C0 (io), 47 A2 (in), 48 A1 (in), 49 A0 (in), 50 GND (power), 51 SEL2 (in), 52 SEL1 (in), 53 SEL0 (in), 54 GND (power), 55 SEROUTA (out), 56 SEROUTB (out), 57 SERSYNC (out), 58 ~{SEROE} (in), 59 SERCLK (out), 60 VCC (power), 61 ~{OEBL} (in), 62 BOUT0 (out), 63 BOUT1 (out), 64 BOUT2 (out), 65 BOUT3 (out), 66 NC, 67 BOUT4 (out), 68 GND (power), 69 BOUT5 (out), 70 BOUT6 (out), 71 BOUT7 (out), 72 GND (power), 73 MSYNCO (out), 74 MSYNCI (in), 75 VCC (power), 76 PROCCLK (in), 77 GND (power), 78 GND (power), 79 BOUT8 (out), 80 BOUT9 (out), 81 BOUT10 (out), 82 BOUT11 (out), 83 BOUT12 (out), 84 BOUT13 (out), 85 NC, 86 VCC (power), 87 BOUT14 (out), 88 BOUT15 (out), 89 ~{OEBH} (in), 90 ~{DATARDY} (out), 91 ~{OEAL} (in), 92 GND (power), 93 AOUT0 (out), 94 AOUT1 (out), 95 AOUT2 (out), 96 AOUT3 (out), 97 AOUT4 (out), 98 NC, 99 VCC (power), 100 AOUT5 (out), 101 AOUT6 (out), 102 AOUT7 (out), 103 AOUT8 (out), 104 AOUT9 (out), 105 NC, 106 GND (power), 107 AOUT10 (out), 108 AOUT11 (out), 109 AOUT12 (out), 110 AOUT13 (out), 111 AOUT14 (out), 112 AOUT15 (out), 113 ~{OEAH} (in), 114 GND (power), 115 REFCLK (in), 116 VCC (power), 117 AGCGNSEL (in), 118 IN13 (in), 119 IN12 (in), 120 IN11 (in)

## HSP50214BVI
designator U?
Programmmable Downconverter; Published: 17-Jul-2002; LatestRevisionDate: 13-Apr-2006; LatestRevisionNote: IPC-7351 Footprint Added.; DatasheetVersion: May-2000; PackageVersion: Jan-1994; PackageReference: Q120.28x28; Publisher: Altium Limited; PackageDescription: 120-Pin Quad Flat Pack 0.8 mm Pitch; Code_IPC: QFP80P3120X3120-120; ComponentLink1Description: Manufacturer Link; ComponentLink1URL: http://www.intersil.com/cda/home/; ComponentLink2Description: Datasheet; ComponentLink2URL: http://www.intersil.com/data/fn/fn4450.pdf
footprint Q120.28x28_N (QFP, 120-Leads, Body 28x28mm, Pitch 0.8mm, IPC Medium Density)
footprint Q120.28x28_L (QFP, 120-Leads, Body 28x28mm, Pitch 0.8mm, IPC High Density)
footprint Q120.28x28_M (QFP, 120-Leads, Body 28x28mm, Pitch 0.8mm, IPC Low Density)
3D model HSP50214B-Q120_28x28 (120-Pin Quad Flat Pack 0.8 mm Pitch)
pins: 1 IN10 (in), 2 IN9 (in), 3 IN8 (in), 4 GND (power), 5 IN7 (in), 6 NC, 7 IN6 (in), 8 IN5 (in), 9 IN4 (in), 10 IN3 (in), 11 IN2 (in), 12 GND (power), 13 IN1 (in), 14 IN0 (in), 15 VCC (power), 16 CLKIN (in), 17 GND (power), 18 NC, 19 ~{ENI} (in), 20 GAINADJ2 (in), 21 GAINADJ1 (in), 22 GAINADJ0 (in), 23 COF (in), 24 COFSYNC (in), 25 GND (power), 26 SOF (in), 27 SOFSYNC (in), 28 VCC (power), 29 SYNCIN1 (in), 30 SYNCIN2 (in), 31 SYNCOUT (out), 32 ~{INTRRP} (out), 33 ~{WR} (in), 34 ~{RD} (in), 35 GND (power), 36 C7 (io), 37 C6 (io), 38 NC, 39 C5 (io), 40 C4 (io), 41 VCC (power), 42 C3 (io), 43 C2 (io), 44 C1 (io), 45 NC, 46 C0 (io), 47 A2 (in), 48 A1 (in), 49 A0 (in), 50 GND (power), 51 SEL2 (in), 52 SEL1 (in), 53 SEL0 (in), 54 GND (power), 55 SEROUTA (out), 56 SEROUTB (out), 57 SERSYNC (out), 58 ~{SEROE} (in), 59 SERCLK (out), 60 VCC (power), 61 ~{OEBL} (in), 62 BOUT0 (out), 63 BOUT1 (out), 64 BOUT2 (out), 65 BOUT3 (out), 66 NC, 67 BOUT4 (out), 68 GND (power), 69 BOUT5 (out), 70 BOUT6 (out), 71 BOUT7 (out), 72 GND (power), 73 MSYNCO (out), 74 MSYNCI (in), 75 VCC (power), 76 PROCCLK (in), 77 GND (power), 78 GND (power), 79 BOUT8 (out), 80 BOUT9 (out), 81 BOUT10 (out), 82 BOUT11 (out), 83 BOUT12 (out), 84 BOUT13 (out), 85 NC, 86 VCC (power), 87 BOUT14 (out), 88 BOUT15 (out), 89 ~{OEBH} (in), 90 ~{DATARDY} (out), 91 ~{OEAL} (in), 92 GND (power), 93 AOUT0 (out), 94 AOUT1 (out), 95 AOUT2 (out), 96 AOUT3 (out), 97 AOUT4 (out), 98 NC, 99 VCC (power), 100 AOUT5 (out), 101 AOUT6 (out), 102 AOUT7 (out), 103 AOUT8 (out), 104 AOUT9 (out), 105 NC, 106 GND (power), 107 AOUT10 (out), 108 AOUT11 (out), 109 AOUT12 (out), 110 AOUT13 (out), 111 AOUT14 (out), 112 AOUT15 (out), 113 ~{OEAH} (in), 114 GND (power), 115 REFCLK (in), 116 VCC (power), 117 AGCGNSEL (in), 118 IN13 (in), 119 IN12 (in), 120 IN11 (in)

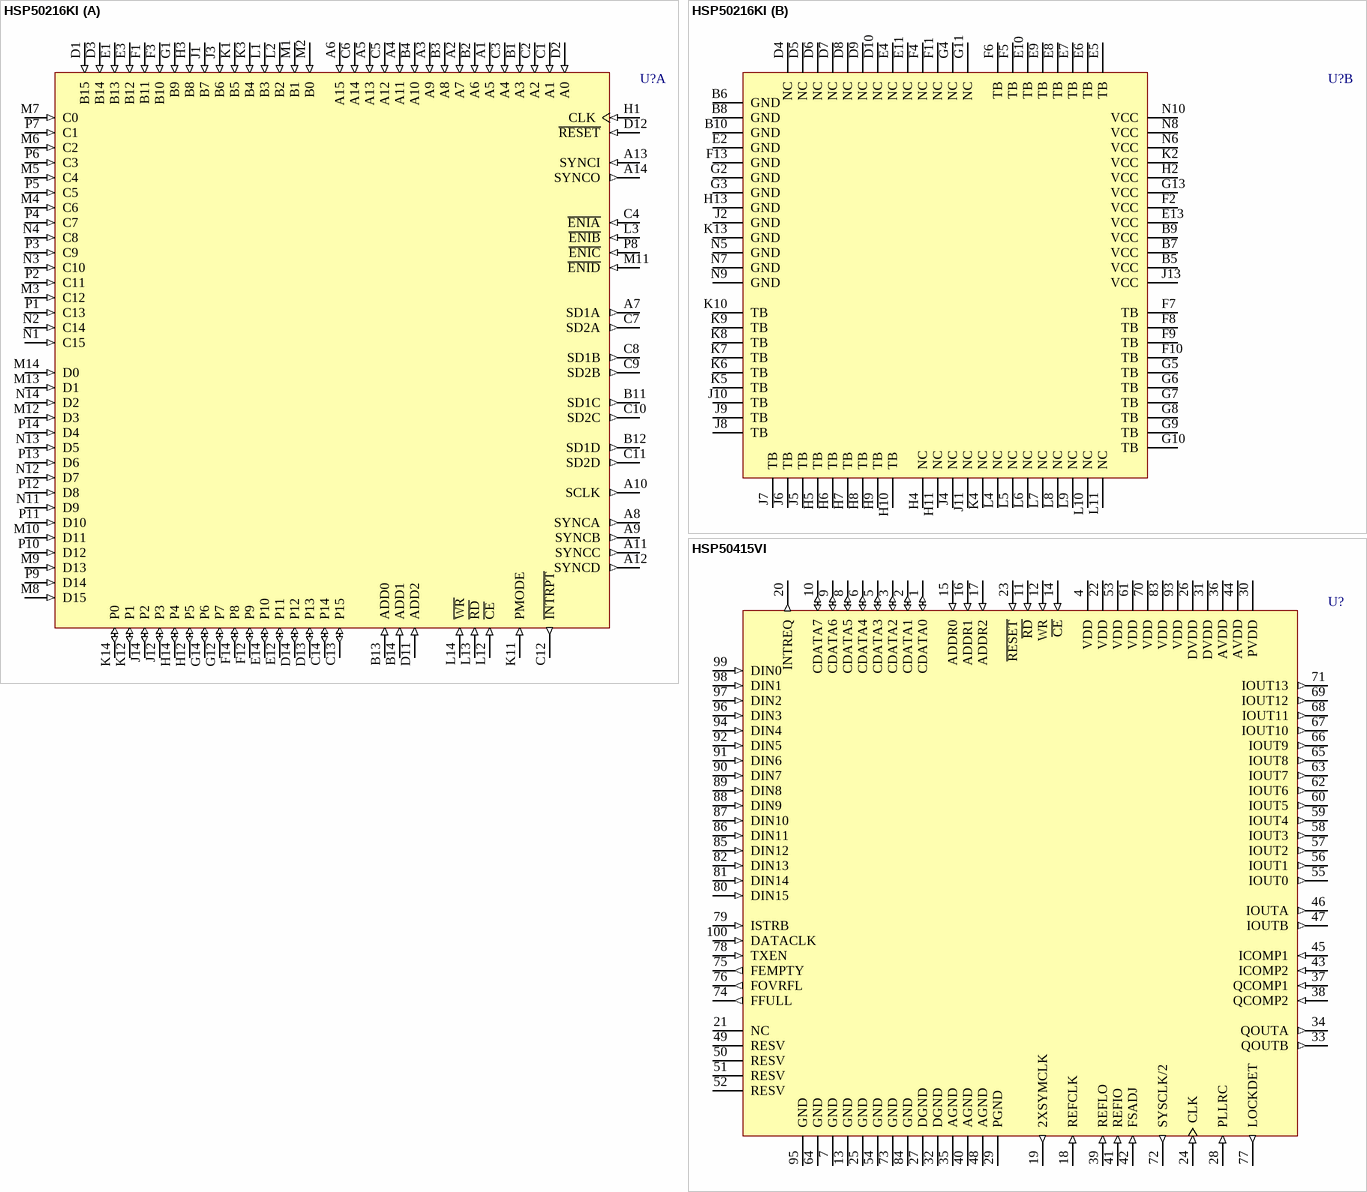
[diagram p2: symbols HSP50216KI to HSP50415VI]

## HSP50216KI
designator U?
Four-Channel Programmable Digital DownConverter; Note: (Pins named) TB stand for Thermal Balls.; Published: 17-Jul-2002; LatestRevisionDate: 13-Apr-2006; LatestRevisionNote: IPC-7351 Footprint Added.; DatasheetVersion: Feb-2000; PackageVersion: Oct-1999; PackageReference: V196.12x12; Publisher: Altium Limited; PackageDescription: 196-Ball Ball Grid Array 0.8 mm Pitch; ComponentLink1Description: Manufacturer Link; ComponentLink1URL: http://www.intersil.com/cda/home/; ComponentLink2Description: Datasheet; ComponentLink2URL: http://www.intersil.com/data/fn/fn4557.pdf
footprint V196.12x12 (BGA, 196-Leads, Body 12x12mm, Pitch 0.8mm)
3D model HSP50216-V196_12x12 (196-Ball Ball Grid Array 0.8 mm Pitch)
part A pins: A1 A5 (in), A2 A7 (in), A3 A9 (in), A4 A11 (in), A5 A13 (in), A6 A15 (in), A7 SD1A (out), A8 SYNCA (out), A9 SYNCB (out), A10 SCLK (out), A11 SYNCC (out), A12 SYNCD (out), A13 SYNCI (in), A14 SYNCO (out), B1 A3 (in), B2 A6 (in), B3 A8 (in), B4 A10 (in), B11 SD1C (out), B12 SD1D (out), B13 ADD0 (in), B14 ADD1 (in), C1 A1 (in), C2 A2 (in), C3 A4 (in), C4 ~{ENIA} (in), C5 A12 (in), C6 A14 (in), C7 SD2A (out), C8 SD1B (out), C9 SD2B (out), C10 SD2C (out), C11 SD2D (out), C12 ~{INTRPT} (out), C13 P15 (io), C14 P14 (io), D1 B15 (in), D2 A0 (in), D3 B14 (in), D11 ADD2 (in), D12 ~{RESET} (in), D13 P13 (io), D14 P12 (io), E1 B13 (in), E3 B12 (in), E12 P11 (io), E14 P10 (io), F1 B11 (in), F3 B10 (in), F12 P9 (io), F14 P8 (io), G1 B9 (in), G12 P7 (io), G14 P6 (io), H1 CLK (in), H3 B8 (in), H12 P5 (io), H14 P4 (io), J1 B7 (in), J3 B6 (in), J12 P3 (io), J14 P2 (io), K1 B5 (in), K3 B4 (in), K11 PMODE (in), K12 P1 (io), K14 P0 (io), L1 B3 (in), L2 B2 (in), L3 ~{ENIB} (in), L12 ~{CE} (in), L13 ~{RD} (in), L14 ~{WR} (in), M1 B1 (in), M2 B0 (in), M3 C12 (in), M4 C6 (in), M5 C4 (in), M6 C2 (in), M7 C0 (in), M8 D15 (in), M9 D13 (in), M10 D11 (in), M11 ~{ENID} (in), M12 D3 (in), M13 D1 (in), M14 D0 (in), N1 C15 (in), N2 C14 (in), N3 C10 (in), N4 C8 (in), N11 D9 (in), N12 D7 (in), N13 D5 (in), N14 D2 (in), P1 C13 (in), P2 C11 (in), P3 C9 (in), P4 C7 (in), P5 C5 (in), P6 C3 (in), P7 C1 (in), P8 ~{ENIC} (in), P9 D14 (in), P10 D12 (in), P11 D10 (in), P12 D8 (in), P13 D6 (in), P14 D4 (in)
part B pins: B5 VCC (power), B6 GND (power), B7 VCC (power), B8 GND (power), B9 VCC (power), B10 GND (power), D4 NC, D5 NC, D6 NC, D7 NC, D8 NC, D9 NC, D10 NC, E2 GND (power), E4 NC, E5 TB, E6 TB, E7 TB, E8 TB, E9 TB, E10 TB, E11 NC, E13 VCC (power), F2 VCC (power), F4 NC, F5 TB, F6 TB, F7 TB, F8 TB, F9 TB, F10 TB, F11 NC, F13 GND (power), G2 GND (power), G3 GND (power), G4 NC, G5 TB, G6 TB, G7 TB, G8 TB, G9 TB, G10 TB, G11 NC, G13 VCC (power), H2 VCC (power), H4 NC, H5 TB, H6 TB, H7 TB, H8 TB, H9 TB, H10 TB, H11 NC, H13 GND (power), J2 GND (power), J4 NC, J5 TB, J6 TB, J7 TB, J8 TB, J9 TB, J10 TB, J11 NC, J13 VCC (power), K2 VCC (power), K4 NC, K5 TB, K6 TB, K7 TB, K8 TB, K9 TB, K10 TB, K13 GND (power), L4 NC, L5 NC, L6 NC, L7 NC, L8 NC, L9 NC, L10 NC, L11 NC, N5 GND (power), N6 VCC (power), N7 GND (power), N8 VCC (power), N9 GND (power), N10 VCC (power)

## HSP50415VI
designator U?
Wideband Programmable Modulator; Note: The RESV pins must be floating (not connected) for proper operation.; Published: 17-Jul-2002; LatestRevisionDate: 13-Apr-2006; LatestRevisionNote: IPC-7351 Footprint Added.; DatasheetVersion: Mar-2000; PackageReference: Q100.14x20; Publisher: Altium Limited; PackageDescription: 100-Pin Quad Flat Pack Rectangular 0.65 mm Pitch; Code_IPC: QFP65P1720X2320-100; ComponentLink1Description: Manufacturer Link; ComponentLink1URL: http://www.intersil.com/cda/home/; ComponentLink2Description: Datasheet; ComponentLink2URL: http://www.intersil.com/data/fn/fn4559.pdf
footprint Q100.14x20_N (QFP, 100-Leads, Body 20x14mm, Pitch 0.65mm, IPC Medium Density)
footprint Q100.14x20_L (QFP, 100-Leads, Body 20x14mm, Pitch 0.65mm, IPC High Density)
footprint Q100.14x20_M (QFP, 100-Leads, Body 20x14mm, Pitch 0.65mm, IPC Low Density)
3D model HSP50415-Q100_14x20 (100-Pin Quad Flat Pack Rectangular 0.65 mm Pitch)
pins: 1 CDATA0 (io), 2 CDATA1 (io), 3 CDATA2 (io), 4 VDD (power), 5 CDATA3 (io), 6 CDATA4 (io), 7 GND (power), 8 CDATA5 (io), 9 CDATA6 (io), 10 CDATA7 (io), 11 ~{RD} (in), 12 WR (in), 13 GND (power), 14 ~{CE} (in), 15 ADDR0 (in), 16 ADDR1 (in), 17 ADDR2 (in), 18 REFCLK (in), 19 2XSYMCLK (out), 20 INTREQ (out), 21 NC, 22 VDD (power), 23 ~{RESET} (in), 24 CLK (in), 25 GND (power), 26 DVDD (power), 27 DGND (power), 28 PLLRC (in), 29 PGND (power), 30 PVDD (power), 31 DVDD (power), 32 DGND (power), 33 QOUTB (out), 34 QOUTA (out), 35 AGND (power), 36 AVDD (power), 37 QCOMP1 (in), 38 QCOMP2 (in), 39 REFLO (in), 40 AGND (power), 41 REFIO (in), 42 FSADJ (in), 43 ICOMP2 (in), 44 AVDD (power), 45 ICOMP1 (in), 46 IOUTA (out), 47 IOUTB (out), 48 AGND (power), 49 RESV, 50 RESV, 51 RESV, 52 RESV, 53 VDD (power), 54 GND (power), 55 IOUT0 (out), 56 IOUT1 (out), 57 IOUT2 (out), 58 IOUT3 (out), 59 IOUT4 (out), 60 IOUT5 (out), 61 VDD (power), 62 IOUT6 (out), 63 IOUT7 (out), 64 GND (power), 65 IOUT8 (out), 66 IOUT9 (out), 67 IOUT10 (out), 68 IOUT11 (out), 69 IOUT12 (out), 70 VDD (power), 71 IOUT13 (out), 72 SYSCLK/2 (out), 73 GND (power), 74 FFULL (out), 75 FEMPTY (out), 76 FOVRFL (out), 77 LOCKDET (out), 78 TXEN (in), 79 ISTRB (in), 80 DIN15 (in), 81 DIN14 (in), 82 DIN13 (in), 83 VDD (power), 84 GND (power), 85 DIN12 (in), 86 DIN11 (in), 87 DIN10 (in), 88 DIN9 (in), 89 DIN8 (in), 90 DIN7 (in), 91 DIN6 (in), 92 DIN5 (in), 93 VDD (power), 94 DIN4 (in), 95 GND (power), 96 DIN3 (in), 97 DIN2 (in), 98 DIN1 (in), 99 DIN0 (in), 100 DATACLK (in)